# Altium integrated library Analog Devices Data Converters Digital-to-Analog Converters.IntLib: 2231 symbols (part 57 of 181)
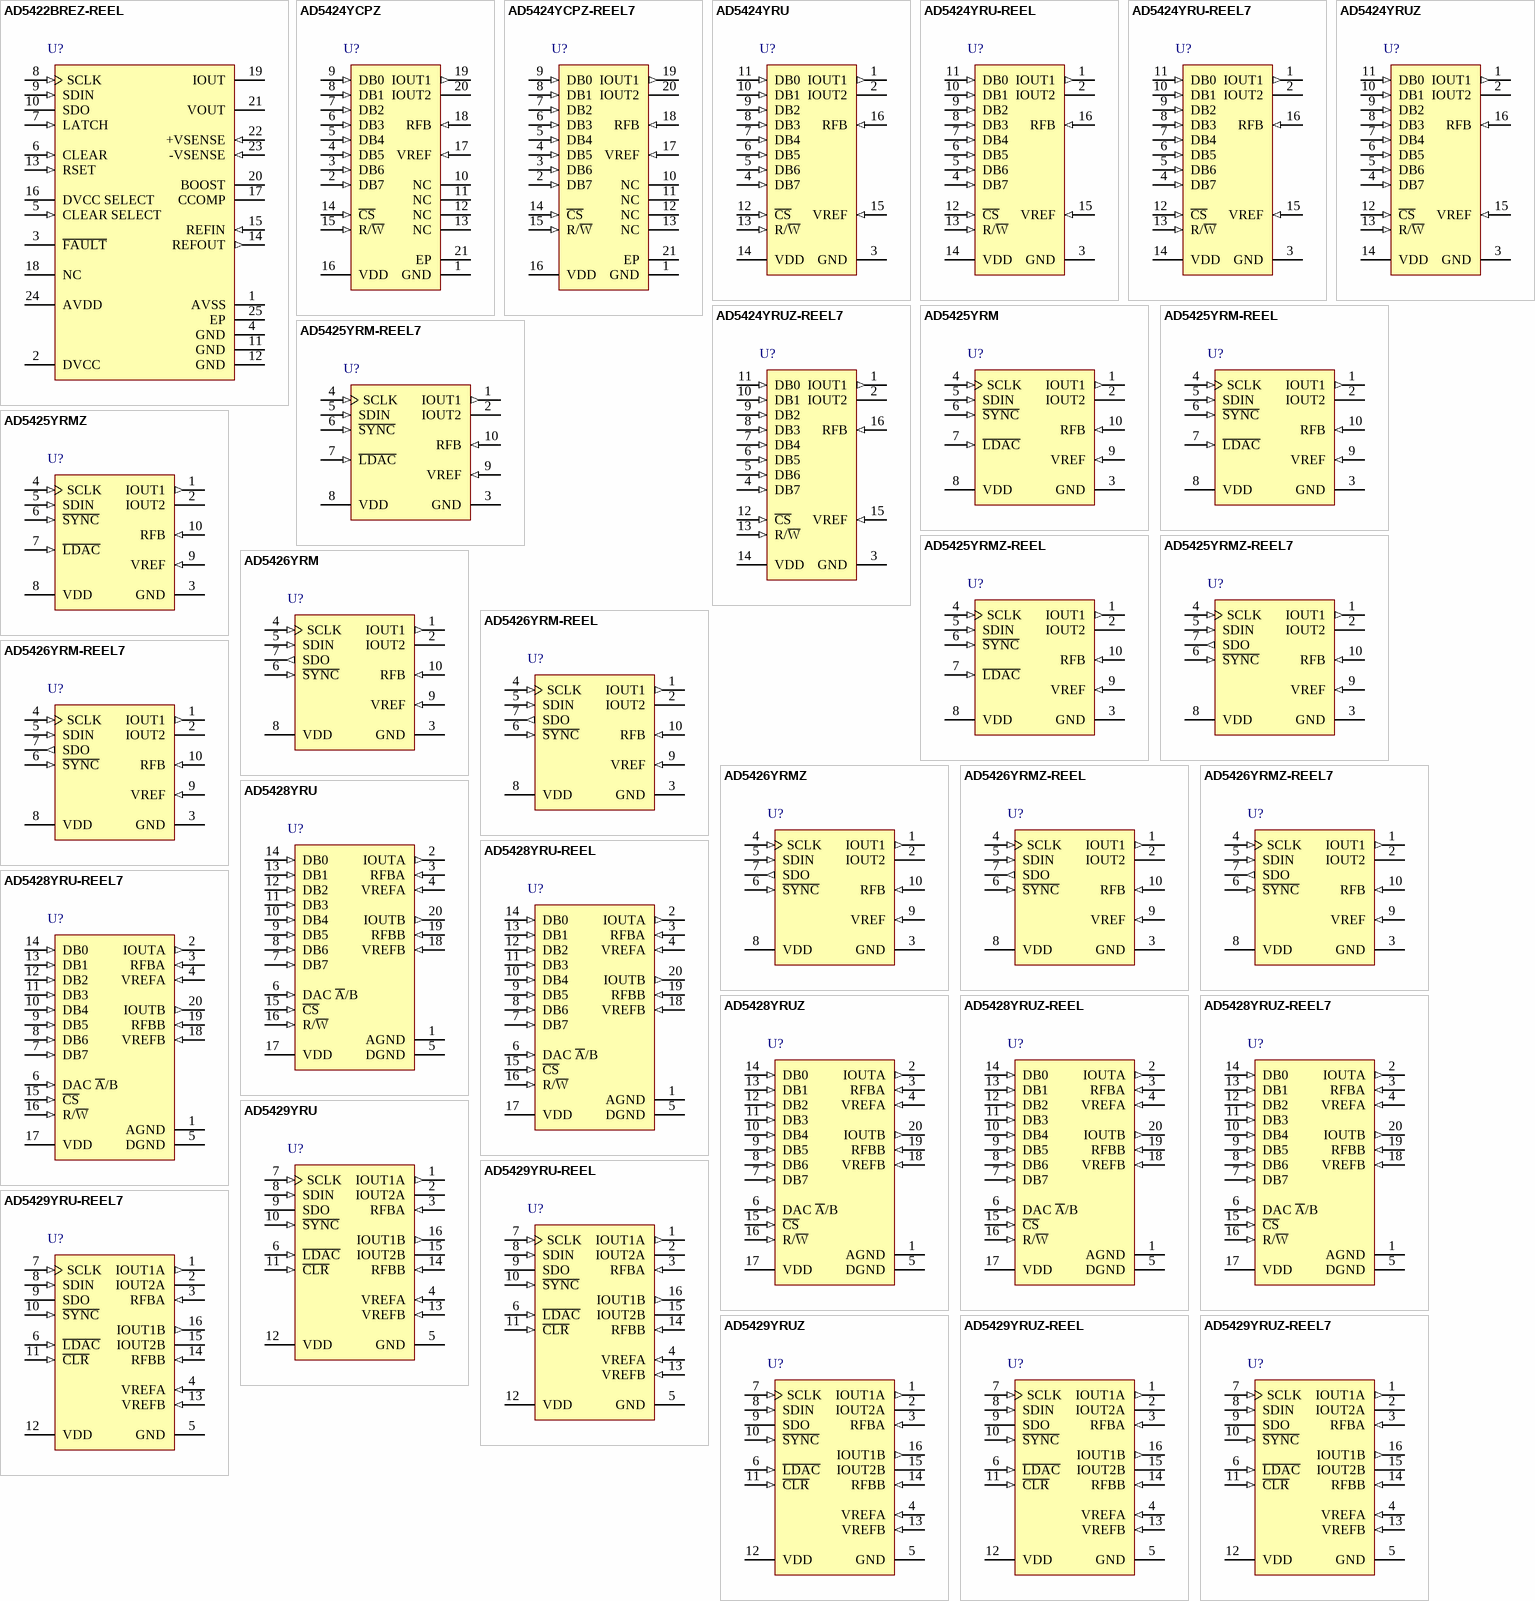
[diagram p170: symbols AD5422BREZ-REEL to AD5429YRUZ-REEL7]

## AD5422BREZ-REEL
designator U?
Single 16-Bit Current Source Digital-to-Analog Converter with Serial Interface and HART Connectivity, -40 to +85 degC, RE-24, Pb-Free, Reel; Generic Part Number: AD5422; Manufacturer: Analog Devices; PartNumber: AD5422BREZ-REEL; # DAC Outputs: 1; Max V+: 40V; Op Pwr Diss: 158mW; Resolution (Bits): 16; Settling Time: 18µs; Single Supply: No; DatasheetVersion: Rev.E; PackageVersion: 050806-A; PackageReference: RE-24; PackageDescription: 24-Lead Thin Shrink Small Outline Package, Exposed Pad [TSSOP_EP]; Supplier 1: Digi-Key; Supplier Part Number 1: AD5422BREZ-REEL-ND; Supplier 2: Mouser; Supplier Part Number 2: 584-AD5422BREZ-R; Packing: Reel; RoHS: Y; Mounting Technology: Surface Mount; Code_JEDEC: MO-153-ADT; ComponentLink1Description: Manufacturer URL; ComponentLink1URL: http://www.analog.com/en/index.html; ComponentLink2Description: Datasheet; ComponentLink2URL: http://www.analog.com/static/imported-files/data_sheets/AD5412_5422.pdf; ComponentLink3Description: Package Specification; ComponentLink3URL: http://www.analog.com/static/imported-files/packages/PKG_PDF/TSSOP_EP(RE)/RE_24.pdf; ComponentLink4Description: Product URL; ComponentLink4URL: http://www.analog.com/en/digital-to-analog-converters/da-converters/ad5422/products/product.html; ComponentLink5Description: Reference Design URL; ComponentLink5URL: http://www.analog.com/en/digital-to-analog-converters/da-converters/ad5422/products/product.html#prod_cross_sell
footprint RE-24_N (TSOP, 24-Leads, Body 7.8x4.4mm, Pitch 0.65mm, Thermal pad 5.02x3.25 mm, IPC Medium Density)
footprint RE-24_L (TSOP, 24-Leads, Body 7.8x4.4mm, Pitch 0.65mm, Thermal pad 5.02x3.25 mm, IPC High Density)
footprint RE-24_M (TSOP, 24-Leads, Body 7.8x4.4mm, Pitch 0.65mm, Thermal pad 5.02x3.25 mm, IPC Low Density)
pins: 1 AVSS (power) "Negative Analog Supply Pin. Voltage ranges from -3 V to -24 V. This pin can be connected to 0 V if the output voltage range is unipolar.", 2 DVCC (power) "Digital Supply Pin. Voltage ranges from 2.7 V to 5.5 V.This pin can also be configured as a 4.5 V LDO output by leaving the DVCC SELECT pin floating.", 3 ~{FAULT} (oc) "Fault Alert. This pin is asserted low when an open circuit is detected in current mode or an overtemperature is detected. Open drain output must be connected to a pull-up resistor.", 4 GND (power) "This pin must be connected to 0 V.", 5 CLEAR SELECT (in) "Selects the voltage output clear value, either zero-scale or midscale code (see Table 21).", 6 CLEAR (in) "Active High Input. Asserting this pin sets the current output to the bottom of the selected range or sets the voltage output to the user selected value (zero-scale or midscale).", 7 LATCH (in) "Positive Edge Sensitive Latch. A rising LATCH edge parallel loads the input shift register data into the DAC register, also updating the output.", 8 SCLK (in) "Serial Clock Input. Data is clocked into the shift register on the rising edge of SCLK. This operates at clock speeds of up to 30 MHz.", 9 SDIN (in) "Serial Data Input. Data must be valid on the rising edge of SCLK.", 10 SDO (hiz) "Serial Data Output. Used to clock data from the serial register in daisy-chain or readback mode. Data is valid on the rising edge of SCLK (see Figure 3 and Figure 4).", 11 GND (power) "Ground Reference Pin.", 12 GND (power) "This pin must be connected to 0 V.", 13 RSET (in) "An external, precision, low drift 15 kohm current setting resistor can be connected to this pin to improve the IOUT temperature drift performance. See the AD5422 Features section.", 14 REFOUT (out) "Internal Reference Voltage Output. REFOUT = 5 V +/- 2 mV.", 15 REFIN (in) "External Reference Voltage Input. Reference input range is 4 V to 5 V. REFIN = 5 V for a specified performance.", 16 DVCC SELECT "When connected to GND, this pin disables the internal supply, and an external supply must be connected to the DVCC pin. Leave this pin unconnected to enable the internal supply. See the AD5422 Features section.", 17 CCOMP "Optional compensation capacitor connection for the voltage output buffer. Connecting a 4 nF capacitor between this pin and the VOUT pin allows the voltage output to drive up to 1 µF. It should be noted that the addition of (See Datasheet)", 18 NC "No Connection. Do not connect to these pins.", 19 IOUT (hiz) "Current Output Pin.", 20 BOOST "Optional External Transistor Connection. Connecting an external transistor reduces the power dissipated in the AD5422. See the AD5422 Features section.", 21 VOUT (hiz) "Buffered Analog Output Voltage. The output amplifier is capable of directly driving a 1 k ohm, 2000 pF load.", 22 +VSENSE (in) "Sense connection for the positive voltage output load connection.", 23 -VSENSE (in) "Sense connection for the negative voltage output load connection.", 24 AVDD (power) "Positive Analog Supply Pin. Voltage ranges from 10.8 V to 60 V.", 25 EP "Negative Analog Supply Pin. Voltage ranges from -3 V to -24 V. This paddle can be connected to 0 V if the output voltage range is unipolar. The paddle can be left electrically unconnected provided that a supply connection is (See Datasheet)"

## AD5424YCPZ
designator U?
Single 8-Bit High Bandwidth Multiplying Digital-to-Analog Converter, -40 to +125 degC, CP-20-1, Pb-Free, Tray; Generic Part Number: AD5424; Manufacturer: Analog Devices; PartNumber: AD5424YCPZ; # DAC Outputs: 1; Max V+: 5.5V; Op Pwr Diss: 25µW; Resolution (Bits): 8; Settling Time: 30ns; Single Supply: Yes; DatasheetVersion: Rev.C; PackageVersion: 012508-B; PackageReference: CP-20-1; PackageDescription: 20-Lead Lead Frame Chip Scale Package [LFCSP_VQ] 4 x 4 mm Body, Very Thin Quad; Supplier 1: Digi-Key; Supplier Part Number 1: AD5424YCPZ-ND; Supplier 2: Mouser; Supplier Part Number 2: 584-AD5424YCPZ; Packing: Tray; RoHS: Y; Mounting Technology: Surface Mount; Code_JEDEC: MO-220-VGGD-1; ComponentLink1Description: Manufacturer URL; ComponentLink1URL: http://www.analog.com/en/index.html; ComponentLink2Description: Datasheet; ComponentLink2URL: http://www.analog.com/static/imported-files/data_sheets/AD5424_5433_5445.pdf; ComponentLink3Description: Package Specification; ComponentLink3URL: http://www.analog.com/static/imported-files/packages/PKG_PDF/LFCSP(CP)/CP_20_1.pdf; ComponentLink4Description: Product URL; ComponentLink4URL: http://www.analog.com/en/digital-to-analog-converters/da-converters/ad5424/products/product.html
footprint CP-20-1_N (QFN, 20-Leads, Body 4x4mm, Pitch 0.5mm, Thermal Pad 2.2x2.2mm, IPC Medium Density)
footprint CP-20-1_L (QFN, 20-Leads, Body 4x4mm, Pitch 0.5mm, Thermal Pad 2.2x2.2mm, IPC High Density)
footprint CP-20-1_M (QFN, 20-Leads, Body 4x4mm, Pitch 0.5mm, Thermal Pad 2.2x2.2mm, IPC Low Density)
pins: 1 GND (power) "Ground.", 2 DB7 (in) "Parallel Data Bit 7.", 3 DB6 (in) "Parallel Data Bit 6.", 4 DB5 (in) "Parallel Data Bit 5.", 5 DB4 (in) "Parallel Data Bit 4.", 6 DB3 (in) "Parallel Data Bit 3.", 7 DB2 (in) "Parallel Data Bit 2.", 8 DB1 (in) "Parallel Data Bit 1.", 9 DB0 (in) "Parallel Data Bit 0.", 10 NC "No Internal Connection.", 11 NC "No Internal Connection.", 12 NC "No Internal Connection.", 13 NC "No Internal Connection.", 14 ~{CS} (in) "Chip Select Input. Active low. Used in conjunction with R/W\ to load parallel data to the input latch or to read data from the DAC register. Rising edge of C\S\ loads data.", 15 R/~{W} (in) "Read/Write. When low, use in conjunction with C\S\ to load parallel data. When high, use with C\S\ to read back contents of DAC register.", 16 VDD (power) "Positive Power Supply Input. These parts can be operated from a supply of 2.5 V to 5.5 V.", 17 VREF (in) "DAC Reference Voltage Input Terminal.", 18 RFB (in) "DAC Feedback Resistor Pin. Establish voltage output for the DAC by connecting to external amplifier output.", 19 IOUT1 (out) "DAC Current Output.", 20 IOUT2 "DAC Analog Ground. This pin should normally be tied to the analog ground of the system.", 21 EP (power) "The exposed pad should be connected to ground."

## AD5424YCPZ-REEL7
designator U?
Single 8-Bit High Bandwidth Multiplying Digital-to-Analog Converter, -40 to +125 degC, CP-20-1, Pb-Free, Reel; Generic Part Number: AD5424; Manufacturer: Analog Devices; PartNumber: AD5424YCPZ-REEL7; # DAC Outputs: 1; Max V+: 5.5V; Op Pwr Diss: 25µW; Resolution (Bits): 8; Settling Time: 30ns; Single Supply: Yes; DatasheetVersion: Rev.C; PackageVersion: 012508-B; PackageReference: CP-20-1; PackageDescription: 20-Lead Lead Frame Chip Scale Package [LFCSP_VQ] 4 x 4 mm Body, Very Thin Quad; Supplier 1: Digi-Key; Supplier Part Number 1: AD5424YCPZ-REEL7-ND; Supplier 2: Mouser; Supplier Part Number 2: 584-AD5424YCPZ-R7; Packing: Reel; RoHS: Y; Mounting Technology: Surface Mount; Code_JEDEC: MO-220-VGGD-1; ComponentLink1Description: Manufacturer URL; ComponentLink1URL: http://www.analog.com/en/index.html; ComponentLink2Description: Datasheet; ComponentLink2URL: http://www.analog.com/static/imported-files/data_sheets/AD5424_5433_5445.pdf; ComponentLink3Description: Package Specification; ComponentLink3URL: http://www.analog.com/static/imported-files/packages/PKG_PDF/LFCSP(CP)/CP_20_1.pdf; ComponentLink4Description: Product URL; ComponentLink4URL: http://www.analog.com/en/digital-to-analog-converters/da-converters/ad5424/products/product.html
footprint CP-20-1_N (QFN, 20-Leads, Body 4x4mm, Pitch 0.5mm, Thermal Pad 2.2x2.2mm, IPC Medium Density)
footprint CP-20-1_L (QFN, 20-Leads, Body 4x4mm, Pitch 0.5mm, Thermal Pad 2.2x2.2mm, IPC High Density)
footprint CP-20-1_M (QFN, 20-Leads, Body 4x4mm, Pitch 0.5mm, Thermal Pad 2.2x2.2mm, IPC Low Density)
pins: 1 GND (power) "Ground.", 2 DB7 (in) "Parallel Data Bit 7.", 3 DB6 (in) "Parallel Data Bit 6.", 4 DB5 (in) "Parallel Data Bit 5.", 5 DB4 (in) "Parallel Data Bit 4.", 6 DB3 (in) "Parallel Data Bit 3.", 7 DB2 (in) "Parallel Data Bit 2.", 8 DB1 (in) "Parallel Data Bit 1.", 9 DB0 (in) "Parallel Data Bit 0.", 10 NC "No Internal Connection.", 11 NC "No Internal Connection.", 12 NC "No Internal Connection.", 13 NC "No Internal Connection.", 14 ~{CS} (in) "Chip Select Input. Active low. Used in conjunction with R/W\ to load parallel data to the input latch or to read data from the DAC register. Rising edge of C\S\ loads data.", 15 R/~{W} (in) "Read/Write. When low, use in conjunction with C\S\ to load parallel data. When high, use with C\S\ to read back contents of DAC register.", 16 VDD (power) "Positive Power Supply Input. These parts can be operated from a supply of 2.5 V to 5.5 V.", 17 VREF (in) "DAC Reference Voltage Input Terminal.", 18 RFB (in) "DAC Feedback Resistor Pin. Establish voltage output for the DAC by connecting to external amplifier output.", 19 IOUT1 (out) "DAC Current Output.", 20 IOUT2 "DAC Analog Ground. This pin should normally be tied to the analog ground of the system.", 21 EP (power) "The exposed pad should be connected to ground."

## AD5424YRU
designator U?
Single 8-Bit High Bandwidth Multiplying Digital-to-Analog Converter, -40 to +125 degC, RU-16, Tube; Generic Part Number: AD5424; Manufacturer: Analog Devices; PartNumber: AD5424YRU; # DAC Outputs: 1; Max V+: 5.5V; Op Pwr Diss: 25µW; Resolution (Bits): 8; Settling Time: 30ns; Single Supply: Yes; DatasheetVersion: Rev.C; PackageVersion: Nov-2002; PackageReference: RU-16; PackageDescription: 16-Lead Thin Shrink Small Outline Package [TSSOP]; Supplier 1: Digi-Key; Supplier Part Number 1: AD5424YRU-ND; Supplier 2: Mouser; Supplier Part Number 2: 584-AD5424YRU; Packing: Tube; RoHS: N; Mounting Technology: Surface Mount; Code_JEDEC: MO-153-AB; ComponentLink1Description: Manufacturer URL; ComponentLink1URL: http://www.analog.com/en/index.html; ComponentLink2Description: Datasheet; ComponentLink2URL: http://www.analog.com/static/imported-files/data_sheets/AD5424_5433_5445.pdf; ComponentLink3Description: Package Specification; ComponentLink3URL: http://www.analog.com/static/imported-files/packages/36244347913743854010197452789RU16.pdf; ComponentLink4Description: Product URL; ComponentLink4URL: http://www.analog.com/en/digital-to-analog-converters/da-converters/ad5424/products/product.html
footprint RU-16_N (TSOP, 16-Leads, Body 5x4.4mm, Pitch 0.65mm, IPC Medium Density)
footprint RU-16_L (TSOP, 16-Leads, Body 5x4.4mm, Pitch 0.65mm, IPC High Density)
footprint RU-16_M (TSOP, 16-Leads, Body 5x4.4mm, Pitch 0.65mm, IPC Low Density)
pins: 1 IOUT1 (out) "DAC Current Output.", 2 IOUT2 "DAC Analog Ground. This pin should normally be tied to the analog ground of the system.", 3 GND (power) "Ground.", 4 DB7 (in) "Parallel Data Bits 7.", 5 DB6 (in) "Parallel Data Bits 6.", 6 DB5 (in) "Parallel Data Bits 5.", 7 DB4 (in) "Parallel Data Bits 4.", 8 DB3 (in) "Parallel Data Bits 3.", 9 DB2 (in) "Parallel Data Bits 2.", 10 DB1 (in) "Parallel Data Bits 1.", 11 DB0 (in) "Parallel Data Bits 0.", 12 ~{CS} (in) "Chip Select Input. Active low. Used in conjunction with R/W\ to load parallel data to the input latch or to read data from the DAC register. Rising edge of C\S\ loads data.", 13 R/~{W} (in) "Read/Write. When low, use in conjunction with C\S\ to load parallel data. When high, use with C\S\ to read back contents of DAC register.", 14 VDD (power) "Positive Power Supply Input. These parts can be operated from a supply of 2.5 V to 5.5 V.", 15 VREF (in) "DAC Reference Voltage Input Terminal.", 16 RFB (in) "DAC Feedback Resistor Pin. Establish voltage output for the DAC by connecting to external amplifier output."

## AD5424YRU-REEL
designator U?
Single 8-Bit High Bandwidth Multiplying Digital-to-Analog Converter, -40 to +125 degC, RU-16, Reel; Generic Part Number: AD5424; Manufacturer: Analog Devices; PartNumber: AD5424YRU-REEL; # DAC Outputs: 1; Max V+: 5.5V; Op Pwr Diss: 25µW; Resolution (Bits): 8; Settling Time: 30ns; Single Supply: Yes; DatasheetVersion: Rev.C; PackageVersion: Nov-2002; PackageReference: RU-16; PackageDescription: 16-Lead Thin Shrink Small Outline Package [TSSOP]; Supplier 1: Mouser; Supplier Part Number 1: N/A; Packing: Reel; RoHS: N; Mounting Technology: Surface Mount; Code_JEDEC: MO-153-AB; ComponentLink1Description: Manufacturer URL; ComponentLink1URL: http://www.analog.com/en/index.html; ComponentLink2Description: Datasheet; ComponentLink2URL: http://www.analog.com/static/imported-files/data_sheets/AD5424_5433_5445.pdf; ComponentLink3Description: Package Specification; ComponentLink3URL: http://www.analog.com/static/imported-files/packages/36244347913743854010197452789RU16.pdf; ComponentLink4Description: Product URL; ComponentLink4URL: http://www.analog.com/en/digital-to-analog-converters/da-converters/ad5424/products/product.html
footprint RU-16_N (TSOP, 16-Leads, Body 5x4.4mm, Pitch 0.65mm, IPC Medium Density)
footprint RU-16_L (TSOP, 16-Leads, Body 5x4.4mm, Pitch 0.65mm, IPC High Density)
footprint RU-16_M (TSOP, 16-Leads, Body 5x4.4mm, Pitch 0.65mm, IPC Low Density)
pins: 1 IOUT1 (out) "DAC Current Output.", 2 IOUT2 "DAC Analog Ground. This pin should normally be tied to the analog ground of the system.", 3 GND (power) "Ground.", 4 DB7 (in) "Parallel Data Bits 7.", 5 DB6 (in) "Parallel Data Bits 6.", 6 DB5 (in) "Parallel Data Bits 5.", 7 DB4 (in) "Parallel Data Bits 4.", 8 DB3 (in) "Parallel Data Bits 3.", 9 DB2 (in) "Parallel Data Bits 2.", 10 DB1 (in) "Parallel Data Bits 1.", 11 DB0 (in) "Parallel Data Bits 0.", 12 ~{CS} (in) "Chip Select Input. Active low. Used in conjunction with R/W\ to load parallel data to the input latch or to read data from the DAC register. Rising edge of C\S\ loads data.", 13 R/~{W} (in) "Read/Write. When low, use in conjunction with C\S\ to load parallel data. When high, use with C\S\ to read back contents of DAC register.", 14 VDD (power) "Positive Power Supply Input. These parts can be operated from a supply of 2.5 V to 5.5 V.", 15 VREF (in) "DAC Reference Voltage Input Terminal.", 16 RFB (in) "DAC Feedback Resistor Pin. Establish voltage output for the DAC by connecting to external amplifier output."

## AD5424YRU-REEL7
designator U?
Single 8-Bit High Bandwidth Multiplying Digital-to-Analog Converter, -40 to +125 degC, RU-16, Reel; Generic Part Number: AD5424; Manufacturer: Analog Devices; PartNumber: AD5424YRU-REEL7; # DAC Outputs: 1; Max V+: 5.5V; Op Pwr Diss: 25µW; Resolution (Bits): 8; Settling Time: 30ns; Single Supply: Yes; DatasheetVersion: Rev.C; PackageVersion: Nov-2002; PackageReference: RU-16; PackageDescription: 16-Lead Thin Shrink Small Outline Package [TSSOP]; Supplier 1: Digi-Key; Supplier Part Number 1: AD5424YRU-REEL7-ND; Supplier 2: Newark; Supplier Part Number 2: 87H9938; Supplier 3: Mouser; Supplier Part Number 3: 584-AD5424YRU-R7; Packing: Reel; RoHS: N; Mounting Technology: Surface Mount; Code_JEDEC: MO-153-AB; ComponentLink1Description: Manufacturer URL; ComponentLink1URL: http://www.analog.com/en/index.html; ComponentLink2Description: Datasheet; ComponentLink2URL: http://www.analog.com/static/imported-files/data_sheets/AD5424_5433_5445.pdf; ComponentLink3Description: Package Specification; ComponentLink3URL: http://www.analog.com/static/imported-files/packages/36244347913743854010197452789RU16.pdf; ComponentLink4Description: Product URL; ComponentLink4URL: http://www.analog.com/en/digital-to-analog-converters/da-converters/ad5424/products/product.html
footprint RU-16_N (TSOP, 16-Leads, Body 5x4.4mm, Pitch 0.65mm, IPC Medium Density)
footprint RU-16_L (TSOP, 16-Leads, Body 5x4.4mm, Pitch 0.65mm, IPC High Density)
footprint RU-16_M (TSOP, 16-Leads, Body 5x4.4mm, Pitch 0.65mm, IPC Low Density)
pins: 1 IOUT1 (out) "DAC Current Output.", 2 IOUT2 "DAC Analog Ground. This pin should normally be tied to the analog ground of the system.", 3 GND (power) "Ground.", 4 DB7 (in) "Parallel Data Bits 7.", 5 DB6 (in) "Parallel Data Bits 6.", 6 DB5 (in) "Parallel Data Bits 5.", 7 DB4 (in) "Parallel Data Bits 4.", 8 DB3 (in) "Parallel Data Bits 3.", 9 DB2 (in) "Parallel Data Bits 2.", 10 DB1 (in) "Parallel Data Bits 1.", 11 DB0 (in) "Parallel Data Bits 0.", 12 ~{CS} (in) "Chip Select Input. Active low. Used in conjunction with R/W\ to load parallel data to the input latch or to read data from the DAC register. Rising edge of C\S\ loads data.", 13 R/~{W} (in) "Read/Write. When low, use in conjunction with C\S\ to load parallel data. When high, use with C\S\ to read back contents of DAC register.", 14 VDD (power) "Positive Power Supply Input. These parts can be operated from a supply of 2.5 V to 5.5 V.", 15 VREF (in) "DAC Reference Voltage Input Terminal.", 16 RFB (in) "DAC Feedback Resistor Pin. Establish voltage output for the DAC by connecting to external amplifier output."

## AD5424YRUZ
designator U?
Single 8-Bit High Bandwidth Multiplying Digital-to-Analog Converter, -40 to +125 degC, RU-16, Pb-Free, Tube; Generic Part Number: AD5424; Manufacturer: Analog Devices; PartNumber: AD5424YRUZ; # DAC Outputs: 1; Max V+: 5.5V; Op Pwr Diss: 25µW; Resolution (Bits): 8; Settling Time: 30ns; Single Supply: Yes; DatasheetVersion: Rev.C; PackageVersion: Nov-2002; PackageReference: RU-16; PackageDescription: 16-Lead Thin Shrink Small Outline Package [TSSOP]; Supplier 1: Digi-Key; Supplier Part Number 1: AD5424YRUZ-ND; Supplier 2: Farnell; Supplier Part Number 2: 1581918; Supplier 3: Newark; Supplier Part Number 3: 59K4108; Supplier 4: Mouser; Supplier Part Number 4: 584-AD5424YRUZ; Packing: Tube; RoHS: Y; Mounting Technology: Surface Mount; Code_JEDEC: MO-153-AB; ComponentLink1Description: Manufacturer URL; ComponentLink1URL: http://www.analog.com/en/index.html; ComponentLink2Description: Datasheet; ComponentLink2URL: http://www.analog.com/static/imported-files/data_sheets/AD5424_5433_5445.pdf; ComponentLink3Description: Package Specification; ComponentLink3URL: http://www.analog.com/static/imported-files/packages/36244347913743854010197452789RU16.pdf; ComponentLink4Description: Product URL; ComponentLink4URL: http://www.analog.com/en/digital-to-analog-converters/da-converters/ad5424/products/product.html
footprint RU-16_N (TSOP, 16-Leads, Body 5x4.4mm, Pitch 0.65mm, IPC Medium Density)
footprint RU-16_L (TSOP, 16-Leads, Body 5x4.4mm, Pitch 0.65mm, IPC High Density)
footprint RU-16_M (TSOP, 16-Leads, Body 5x4.4mm, Pitch 0.65mm, IPC Low Density)
pins: 1 IOUT1 (out) "DAC Current Output.", 2 IOUT2 "DAC Analog Ground. This pin should normally be tied to the analog ground of the system.", 3 GND (power) "Ground.", 4 DB7 (in) "Parallel Data Bits 7.", 5 DB6 (in) "Parallel Data Bits 6.", 6 DB5 (in) "Parallel Data Bits 5.", 7 DB4 (in) "Parallel Data Bits 4.", 8 DB3 (in) "Parallel Data Bits 3.", 9 DB2 (in) "Parallel Data Bits 2.", 10 DB1 (in) "Parallel Data Bits 1.", 11 DB0 (in) "Parallel Data Bits 0.", 12 ~{CS} (in) "Chip Select Input. Active low. Used in conjunction with R/W\ to load parallel data to the input latch or to read data from the DAC register. Rising edge of C\S\ loads data.", 13 R/~{W} (in) "Read/Write. When low, use in conjunction with C\S\ to load parallel data. When high, use with C\S\ to read back contents of DAC register.", 14 VDD (power) "Positive Power Supply Input. These parts can be operated from a supply of 2.5 V to 5.5 V.", 15 VREF (in) "DAC Reference Voltage Input Terminal.", 16 RFB (in) "DAC Feedback Resistor Pin. Establish voltage output for the DAC by connecting to external amplifier output."

## AD5424YRUZ-REEL7
designator U?
Single 8-Bit High Bandwidth Multiplying Digital-to-Analog Converter, -40 to +125 degC, RU-16, Pb-Free, Reel; Generic Part Number: AD5424; Manufacturer: Analog Devices; PartNumber: AD5424YRUZ-REEL7; # DAC Outputs: 1; Max V+: 5.5V; Op Pwr Diss: 25µW; Resolution (Bits): 8; Settling Time: 30ns; Single Supply: Yes; DatasheetVersion: Rev.C; PackageVersion: Nov-2002; PackageReference: RU-16; PackageDescription: 16-Lead Thin Shrink Small Outline Package [TSSOP]; Supplier 1: Digi-Key; Supplier Part Number 1: AD5424YRUZ-REEL7TR-ND; Supplier 2: Digi-Key; Supplier Part Number 2: AD5424YRUZ-REEL7CT-ND; Supplier 3: Digi-Key; Supplier Part Number 3: AD5424YRUZ-REEL7DKR-ND; Supplier 4: Newark; Supplier Part Number 4: 59K4110; Supplier 5: Mouser; Supplier Part Number 5: 584-AD5424YRUZ-R7; Packing: Reel; RoHS: Y; Mounting Technology: Surface Mount; Code_JEDEC: MO-153-AB; ComponentLink1Description: Manufacturer URL; ComponentLink1URL: http://www.analog.com/en/index.html; ComponentLink2Description: Datasheet; ComponentLink2URL: http://www.analog.com/static/imported-files/data_sheets/AD5424_5433_5445.pdf; ComponentLink3Description: Package Specification; ComponentLink3URL: http://www.analog.com/static/imported-files/packages/36244347913743854010197452789RU16.pdf; ComponentLink4Description: Product URL; ComponentLink4URL: http://www.analog.com/en/digital-to-analog-converters/da-converters/ad5424/products/product.html
footprint RU-16_N (TSOP, 16-Leads, Body 5x4.4mm, Pitch 0.65mm, IPC Medium Density)
footprint RU-16_L (TSOP, 16-Leads, Body 5x4.4mm, Pitch 0.65mm, IPC High Density)
footprint RU-16_M (TSOP, 16-Leads, Body 5x4.4mm, Pitch 0.65mm, IPC Low Density)
pins: 1 IOUT1 (out) "DAC Current Output.", 2 IOUT2 "DAC Analog Ground. This pin should normally be tied to the analog ground of the system.", 3 GND (power) "Ground.", 4 DB7 (in) "Parallel Data Bits 7.", 5 DB6 (in) "Parallel Data Bits 6.", 6 DB5 (in) "Parallel Data Bits 5.", 7 DB4 (in) "Parallel Data Bits 4.", 8 DB3 (in) "Parallel Data Bits 3.", 9 DB2 (in) "Parallel Data Bits 2.", 10 DB1 (in) "Parallel Data Bits 1.", 11 DB0 (in) "Parallel Data Bits 0.", 12 ~{CS} (in) "Chip Select Input. Active low. Used in conjunction with R/W\ to load parallel data to the input latch or to read data from the DAC register. Rising edge of C\S\ loads data.", 13 R/~{W} (in) "Read/Write. When low, use in conjunction with C\S\ to load parallel data. When high, use with C\S\ to read back contents of DAC register.", 14 VDD (power) "Positive Power Supply Input. These parts can be operated from a supply of 2.5 V to 5.5 V.", 15 VREF (in) "DAC Reference Voltage Input Terminal.", 16 RFB (in) "DAC Feedback Resistor Pin. Establish voltage output for the DAC by connecting to external amplifier output."

## AD5425YRM
designator U?
Single 8-Bit High Bandwidth Multiplying Digital-to-Analog Converter, -40 to +125 degC, RM-10, Tube; Generic Part Number: AD5425; Manufacturer: Analog Devices; PartNumber: AD5425YRM; # DAC Outputs: 1; Max V+: 5.5V; Op Pwr Diss: 25µW; Resolution (Bits): 8; Settling Time: 100ns; Single Supply: Yes; DatasheetVersion: Rev. B; PackageVersion: May-2005; PackageReference: RM-10; PackageDescription: 10-Lead Mini Small Outline Package [MSOP]; Supplier 1: Digi-Key; Supplier Part Number 1: AD5425YRM-ND; Supplier 2: Mouser; Supplier Part Number 2: 584-AD5425YRM; Packing: Tube; RoHS: N; Mounting Technology: Surface Mount; ComponentLink1Description: Manufacturer URL; ComponentLink1URL: http://www.analog.com/en/index.html; ComponentLink2Description: Datasheet; ComponentLink2URL: http://www.analog.com/static/imported-files/data_sheets/AD5425.pdf; ComponentLink3Description: Package Specification; ComponentLink3URL: http://www.analog.com/static/imported-files/packages/PKG_PDF/MSOP%28RM%29/RM_10.pdf; ComponentLink4Description: Product URL; ComponentLink4URL: http://www.analog.com/en/digital-to-analog-converters/da-converters/ad5425/products/product.html
footprint RM-10_N (TSSOP, 10-Leads, Body 3x3mm, Pitch 0.5mm, IPC Medium Density)
footprint RM-10_L (TSSOP, 10-Leads, Body 3x3mm, Pitch 0.5mm, IPC High Density)
footprint RM-10_M (TSSOP, 10-Leads, Body 3x3mm, Pitch 0.5mm, IPC Low Density)
pins: 1 IOUT1 (out) "DAC Current Output.", 2 IOUT2 "DAC Analog Ground. This pin should normally be tied to the analog ground of the system.", 3 GND (power) "Digital Ground Pin.", 4 SCLK (in) "Serial Clock Input. Data is clocked into the input shift register on each falling edge of the serial clock input. This device can accommodate clock rates of up to 50 MHz.", 5 SDIN (in) "Serial Data Input. Data is clocked into the 8-bit input register on each falling edge of the serial clock input.", 6 ~{SYNC} (in) "Active Low Control Input. This is the frame synchronization signal for the input data. When S\Y\N\C\ goes low, it powers on the SCLK and DIN buffers and the input shift register is enabled. Data is transferred on each (See Datasheet)", 7 ~{LDAC} (in) "Load DAC Input. Updates the DAC output. The DAC is updated when this signal goes low or alternatively; if this line is held permanently low, an automatic update mode is selected whereby the DAC is updated after 8 SCLK (See Datasheet)", 8 VDD (power) "Positive Power Supply Input. This part can be operated from a supply of 2.5 V to 5.5 V.", 9 VREF (in) "DAC Reference Voltage Input Terminal.", 10 RFB (in) "DAC Feedback Resistor Pin. Establishes voltage output for the DAC by connecting to external amplifier output."

## AD5425YRM-REEL
designator U?
Single 8-Bit High Bandwidth Multiplying Digital-to-Analog Converter, -40 to +125 degC, RM-10, Reel; Generic Part Number: AD5425; Manufacturer: Analog Devices; PartNumber: AD5425YRM-REEL; # DAC Outputs: 1; Max V+: 5.5V; Op Pwr Diss: 25µW; Resolution (Bits): 8; Settling Time: 100ns; Single Supply: Yes; DatasheetVersion: Rev. B; PackageVersion: May-2005; PackageReference: RM-10; PackageDescription: 10-Lead Mini Small Outline Package [MSOP]; Supplier 1: Digi-Key; Supplier Part Number 1: AD5425YRM-REEL-ND; Supplier 2: Mouser; Supplier Part Number 2: 584-AD5425YRM-R; Packing: Reel; RoHS: N; Mounting Technology: Surface Mount; ComponentLink1Description: Manufacturer URL; ComponentLink1URL: http://www.analog.com/en/index.html; ComponentLink2Description: Datasheet; ComponentLink2URL: http://www.analog.com/static/imported-files/data_sheets/AD5425.pdf; ComponentLink3Description: Package Specification; ComponentLink3URL: http://www.analog.com/static/imported-files/packages/PKG_PDF/MSOP%28RM%29/RM_10.pdf; ComponentLink4Description: Product URL; ComponentLink4URL: http://www.analog.com/en/digital-to-analog-converters/da-converters/ad5425/products/product.html
footprint RM-10_N (TSSOP, 10-Leads, Body 3x3mm, Pitch 0.5mm, IPC Medium Density)
footprint RM-10_L (TSSOP, 10-Leads, Body 3x3mm, Pitch 0.5mm, IPC High Density)
footprint RM-10_M (TSSOP, 10-Leads, Body 3x3mm, Pitch 0.5mm, IPC Low Density)
pins: 1 IOUT1 (out) "DAC Current Output.", 2 IOUT2 "DAC Analog Ground. This pin should normally be tied to the analog ground of the system.", 3 GND (power) "Digital Ground Pin.", 4 SCLK (in) "Serial Clock Input. Data is clocked into the input shift register on each falling edge of the serial clock input. This device can accommodate clock rates of up to 50 MHz.", 5 SDIN (in) "Serial Data Input. Data is clocked into the 8-bit input register on each falling edge of the serial clock input.", 6 ~{SYNC} (in) "Active Low Control Input. This is the frame synchronization signal for the input data. When S\Y\N\C\ goes low, it powers on the SCLK and DIN buffers and the input shift register is enabled. Data is transferred on each (See Datasheet)", 7 ~{LDAC} (in) "Load DAC Input. Updates the DAC output. The DAC is updated when this signal goes low or alternatively; if this line is held permanently low, an automatic update mode is selected whereby the DAC is updated after 8 SCLK (See Datasheet)", 8 VDD (power) "Positive Power Supply Input. This part can be operated from a supply of 2.5 V to 5.5 V.", 9 VREF (in) "DAC Reference Voltage Input Terminal.", 10 RFB (in) "DAC Feedback Resistor Pin. Establishes voltage output for the DAC by connecting to external amplifier output."

## AD5425YRM-REEL7
designator U?
Single 8-Bit High Bandwidth Multiplying Digital-to-Analog Converter, -40 to +125 degC, RM-10, Reel; Generic Part Number: AD5425; Manufacturer: Analog Devices; PartNumber: AD5425YRM-REEL7; # DAC Outputs: 1; Max V+: 5.5V; Op Pwr Diss: 25µW; Resolution (Bits): 8; Settling Time: 100ns; Single Supply: Yes; DatasheetVersion: Rev. B; PackageVersion: May-2005; PackageReference: RM-10; PackageDescription: 10-Lead Mini Small Outline Package [MSOP]; Supplier 1: Digi-Key; Supplier Part Number 1: AD5425YRM-REEL7-ND; Supplier 2: Newark; Supplier Part Number 2: 59K4113; Supplier 3: Mouser; Supplier Part Number 3: 584-AD5425YRM-R7; Packing: Reel; RoHS: N; Mounting Technology: Surface Mount; ComponentLink1Description: Manufacturer URL; ComponentLink1URL: http://www.analog.com/en/index.html; ComponentLink2Description: Datasheet; ComponentLink2URL: http://www.analog.com/static/imported-files/data_sheets/AD5425.pdf; ComponentLink3Description: Package Specification; ComponentLink3URL: http://www.analog.com/static/imported-files/packages/PKG_PDF/MSOP%28RM%29/RM_10.pdf; ComponentLink4Description: Product URL; ComponentLink4URL: http://www.analog.com/en/digital-to-analog-converters/da-converters/ad5425/products/product.html
footprint RM-10_N (TSSOP, 10-Leads, Body 3x3mm, Pitch 0.5mm, IPC Medium Density)
footprint RM-10_L (TSSOP, 10-Leads, Body 3x3mm, Pitch 0.5mm, IPC High Density)
footprint RM-10_M (TSSOP, 10-Leads, Body 3x3mm, Pitch 0.5mm, IPC Low Density)
pins: 1 IOUT1 (out) "DAC Current Output.", 2 IOUT2 "DAC Analog Ground. This pin should normally be tied to the analog ground of the system.", 3 GND (power) "Digital Ground Pin.", 4 SCLK (in) "Serial Clock Input. Data is clocked into the input shift register on each falling edge of the serial clock input. This device can accommodate clock rates of up to 50 MHz.", 5 SDIN (in) "Serial Data Input. Data is clocked into the 8-bit input register on each falling edge of the serial clock input.", 6 ~{SYNC} (in) "Active Low Control Input. This is the frame synchronization signal for the input data. When S\Y\N\C\ goes low, it powers on the SCLK and DIN buffers and the input shift register is enabled. Data is transferred on each (See Datasheet)", 7 ~{LDAC} (in) "Load DAC Input. Updates the DAC output. The DAC is updated when this signal goes low or alternatively; if this line is held permanently low, an automatic update mode is selected whereby the DAC is updated after 8 SCLK (See Datasheet)", 8 VDD (power) "Positive Power Supply Input. This part can be operated from a supply of 2.5 V to 5.5 V.", 9 VREF (in) "DAC Reference Voltage Input Terminal.", 10 RFB (in) "DAC Feedback Resistor Pin. Establishes voltage output for the DAC by connecting to external amplifier output."

## AD5425YRMZ
designator U?
Single 8-Bit High Bandwidth Multiplying Digital-to-Analog Converter, -40 to +125 degC, RM-10, Pb-Free, Tube; Generic Part Number: AD5425; Manufacturer: Analog Devices; PartNumber: AD5425YRMZ; # DAC Outputs: 1; Max V+: 5.5V; Op Pwr Diss: 25µW; Resolution (Bits): 8; Settling Time: 100ns; Single Supply: Yes; DatasheetVersion: Rev. B; PackageVersion: May-2005; PackageReference: RM-10; PackageDescription: 10-Lead Mini Small Outline Package [MSOP]; Supplier 1: Digi-Key; Supplier Part Number 1: AD5425YRMZ-ND; Supplier 2: Newark; Supplier Part Number 2: 59K4114; Supplier 3: Mouser; Supplier Part Number 3: 584-AD5425YRMZ; Packing: Tube; RoHS: Y; Mounting Technology: Surface Mount; ComponentLink1Description: Manufacturer URL; ComponentLink1URL: http://www.analog.com/en/index.html; ComponentLink2Description: Datasheet; ComponentLink2URL: http://www.analog.com/static/imported-files/data_sheets/AD5425.pdf; ComponentLink3Description: Package Specification; ComponentLink3URL: http://www.analog.com/static/imported-files/packages/PKG_PDF/MSOP%28RM%29/RM_10.pdf; ComponentLink4Description: Product URL; ComponentLink4URL: http://www.analog.com/en/digital-to-analog-converters/da-converters/ad5425/products/product.html
footprint RM-10_N (TSSOP, 10-Leads, Body 3x3mm, Pitch 0.5mm, IPC Medium Density)
footprint RM-10_L (TSSOP, 10-Leads, Body 3x3mm, Pitch 0.5mm, IPC High Density)
footprint RM-10_M (TSSOP, 10-Leads, Body 3x3mm, Pitch 0.5mm, IPC Low Density)
pins: 1 IOUT1 (out) "DAC Current Output.", 2 IOUT2 "DAC Analog Ground. This pin should normally be tied to the analog ground of the system.", 3 GND (power) "Digital Ground Pin.", 4 SCLK (in) "Serial Clock Input. Data is clocked into the input shift register on each falling edge of the serial clock input. This device can accommodate clock rates of up to 50 MHz.", 5 SDIN (in) "Serial Data Input. Data is clocked into the 8-bit input register on each falling edge of the serial clock input.", 6 ~{SYNC} (in) "Active Low Control Input. This is the frame synchronization signal for the input data. When S\Y\N\C\ goes low, it powers on the SCLK and DIN buffers and the input shift register is enabled. Data is transferred on each (See Datasheet)", 7 ~{LDAC} (in) "Load DAC Input. Updates the DAC output. The DAC is updated when this signal goes low or alternatively; if this line is held permanently low, an automatic update mode is selected whereby the DAC is updated after 8 SCLK (See Datasheet)", 8 VDD (power) "Positive Power Supply Input. This part can be operated from a supply of 2.5 V to 5.5 V.", 9 VREF (in) "DAC Reference Voltage Input Terminal.", 10 RFB (in) "DAC Feedback Resistor Pin. Establishes voltage output for the DAC by connecting to external amplifier output."

## AD5425YRMZ-REEL
designator U?
Single 8-Bit High Bandwidth Multiplying Digital-to-Analog Converter, -40 to +125 degC, RM-10, Pb-Free, Reel; Generic Part Number: AD5425; Manufacturer: Analog Devices; PartNumber: AD5425YRMZ-REEL; # DAC Outputs: 1; Max V+: 5.5V; Op Pwr Diss: 25µW; Resolution (Bits): 8; Settling Time: 100ns; Single Supply: Yes; DatasheetVersion: Rev. B; PackageVersion: May-2005; PackageReference: RM-10; PackageDescription: 10-Lead Mini Small Outline Package [MSOP]; Supplier 1: Digi-Key; Supplier Part Number 1: AD5425YRMZ-REEL-ND; Supplier 2: Mouser; Supplier Part Number 2: 584-AD5425YRMZ-R; Packing: Reel; RoHS: Y; Mounting Technology: Surface Mount; ComponentLink1Description: Manufacturer URL; ComponentLink1URL: http://www.analog.com/en/index.html; ComponentLink2Description: Datasheet; ComponentLink2URL: http://www.analog.com/static/imported-files/data_sheets/AD5425.pdf; ComponentLink3Description: Package Specification; ComponentLink3URL: http://www.analog.com/static/imported-files/packages/PKG_PDF/MSOP%28RM%29/RM_10.pdf; ComponentLink4Description: Product URL; ComponentLink4URL: http://www.analog.com/en/digital-to-analog-converters/da-converters/ad5425/products/product.html
footprint RM-10_N (TSSOP, 10-Leads, Body 3x3mm, Pitch 0.5mm, IPC Medium Density)
footprint RM-10_L (TSSOP, 10-Leads, Body 3x3mm, Pitch 0.5mm, IPC High Density)
footprint RM-10_M (TSSOP, 10-Leads, Body 3x3mm, Pitch 0.5mm, IPC Low Density)
pins: 1 IOUT1 (out) "DAC Current Output.", 2 IOUT2 "DAC Analog Ground. This pin should normally be tied to the analog ground of the system.", 3 GND (power) "Digital Ground Pin.", 4 SCLK (in) "Serial Clock Input. Data is clocked into the input shift register on each falling edge of the serial clock input. This device can accommodate clock rates of up to 50 MHz.", 5 SDIN (in) "Serial Data Input. Data is clocked into the 8-bit input register on each falling edge of the serial clock input.", 6 ~{SYNC} (in) "Active Low Control Input. This is the frame synchronization signal for the input data. When S\Y\N\C\ goes low, it powers on the SCLK and DIN buffers and the input shift register is enabled. Data is transferred on each (See Datasheet)", 7 ~{LDAC} (in) "Load DAC Input. Updates the DAC output. The DAC is updated when this signal goes low or alternatively; if this line is held permanently low, an automatic update mode is selected whereby the DAC is updated after 8 SCLK (See Datasheet)", 8 VDD (power) "Positive Power Supply Input. This part can be operated from a supply of 2.5 V to 5.5 V.", 9 VREF (in) "DAC Reference Voltage Input Terminal.", 10 RFB (in) "DAC Feedback Resistor Pin. Establishes voltage output for the DAC by connecting to external amplifier output."

## AD5425YRMZ-REEL7
designator U?
Single 8-Bit High Bandwidth Multiplying Digital-to-Analog Converter, -40 to +125 degC, RM-10, Pb-Free, Reel; Generic Part Number: AD5425; Manufacturer: Analog Devices; PartNumber: AD5425YRMZ-REEL7; # DAC Outputs: 1; Max V+: 5.5V; Op Pwr Diss: 25µW; Resolution (Bits): 8; Settling Time: 100ns; Single Supply: Yes; DatasheetVersion: Rev. B; PackageVersion: May-2005; PackageReference: RM-10; PackageDescription: 10-Lead Mini Small Outline Package [MSOP]; Supplier 1: Digi-Key; Supplier Part Number 1: AD5425YRMZ-REEL7-ND; Supplier 2: Mouser; Supplier Part Number 2: 584-AD5425YRMZ-R7; Packing: Reel; RoHS: Y; Mounting Technology: Surface Mount; ComponentLink1Description: Manufacturer URL; ComponentLink1URL: http://www.analog.com/en/index.html; ComponentLink2Description: Datasheet; ComponentLink2URL: http://www.analog.com/static/imported-files/data_sheets/AD5425.pdf; ComponentLink3Description: Package Specification; ComponentLink3URL: http://www.analog.com/static/imported-files/packages/PKG_PDF/MSOP%28RM%29/RM_10.pdf; ComponentLink4Description: Product URL; ComponentLink4URL: http://www.analog.com/en/digital-to-analog-converters/da-converters/ad5425/products/product.html
footprint RM-10_N (TSSOP, 10-Leads, Body 3x3mm, Pitch 0.5mm, IPC Medium Density)
footprint RM-10_L (TSSOP, 10-Leads, Body 3x3mm, Pitch 0.5mm, IPC High Density)
footprint RM-10_M (TSSOP, 10-Leads, Body 3x3mm, Pitch 0.5mm, IPC Low Density)
pins: 1 IOUT1 (out) "DAC Current Output.", 2 IOUT2 "DAC Analog Ground. This pin should normally be tied to the analog ground of the system.", 3 GND (power) "Digital Ground Pin.", 4 SCLK (in) "Serial Clock Input. By default, data is clocked into the input shift register on the falling edge of the serial clock input. Alternatively, by means of the serial control bits, the device may be configured such that data is (See Datasheet)", 5 SDIN (in) "Serial Data Input. Data is clocked into the 16-bit input register on the active edge of the serial clock input. By default, on power-up, data is clocked into the shift register on the falling edge of SCLK. The control bits (See Datasheet)", 6 ~{SYNC} (in) "Active Low Control Input. This is the frame synchronization signal for the input data. When S\Y\N\C\ goes low, it powers on the SCLK and DIN buffers, and the input shift register is enabled. Data is loaded to the mode, the (See Datasheet)", 7 SDO (out) "Serial Data Output. This allows a number of parts to be daisy-chained. By default, data is clocked into the shift register on the falling edge and out via SDO on the rising edge of SCLK. Data is always clocked out on the (See Datasheet)", 8 VDD (power) "Positive Power Supply Input. These parts can be operated from a supply of 2.5 V to 5.5 V.", 9 VREF (in) "DAC Reference Voltage Input.", 10 RFB (in) "DAC Feedback Resistor Pin. Establishes voltage output for the DAC by connecting to external amplifier output."

## AD5426YRM
designator U?
Single 8-Bit High Bandwidth Multiplying Digital-to-Analog Converter, -40 to +125 degC, RM-10, Tube; Generic Part Number: AD5426; Manufacturer: Analog Devices; PartNumber: AD5426YRM; # DAC Outputs: 1; Max V+: 5.5V; Op Pwr Diss: 25µW; Resolution (Bits): 8; Settling Time: 50ns; Single Supply: Yes; DatasheetVersion: Rev.D; PackageVersion: May-2005; PackageReference: RM-10; PackageDescription: 10-Lead Mini Small Outline Package [MSOP]; Supplier 1: Digi-Key; Supplier Part Number 1: AD5426YRM-ND; Supplier 2: Mouser; Supplier Part Number 2: 584-AD5426YRM; Packing: Tube; RoHS: N; Mounting Technology: Surface Mount; ComponentLink1Description: Manufacturer URL; ComponentLink1URL: http://www.analog.com/en/index.html; ComponentLink2Description: Datasheet; ComponentLink2URL: http://www.analog.com/static/imported-files/data_sheets/AD5426_5432_5443.pdf; ComponentLink3Description: Package Specification; ComponentLink3URL: http://www.analog.com/static/imported-files/packages/PKG_PDF/MSOP%28RM%29/RM_10.pdf; ComponentLink4Description: Product URL; ComponentLink4URL: http://www.analog.com/en/digital-to-analog-converters/da-converters/ad5426/products/product.html; ComponentLink5Description: Reference Design URL; ComponentLink5URL: http://www.analog.com/en/digital-to-analog-converters/da-converters/ad5426/products/product.html#prod_cross_sell
footprint RM-10_N (TSSOP, 10-Leads, Body 3x3mm, Pitch 0.5mm, IPC Medium Density)
footprint RM-10_L (TSSOP, 10-Leads, Body 3x3mm, Pitch 0.5mm, IPC High Density)
footprint RM-10_M (TSSOP, 10-Leads, Body 3x3mm, Pitch 0.5mm, IPC Low Density)
pins: 1 IOUT1 (out) "DAC Current Output.", 2 IOUT2 "DAC Analog Ground. This pin should normally be tied to the analog ground of the system.", 3 GND (power) "Digital Ground Pin.", 4 SCLK (in) "Serial Clock Input. By default, data is clocked into the input shift register on the falling edge of the serial clock input. Alternatively, by means of the serial control bits, the device may be configured such that data is (See Datasheet)", 5 SDIN (in) "Serial Data Input. Data is clocked into the 16-bit input register on the active edge of the serial clock input. By default, on power-up, data is clocked into the shift register on the falling edge of SCLK. The control bits (See Datasheet)", 6 ~{SYNC} (in) "Active Low Control Input. This is the frame synchronization signal for the input data. When S\Y\N\C\ goes low, it powers on the SCLK and DIN buffers, and the input shift register is enabled. Data is loaded to the mode, the (See Datasheet)", 7 SDO (out) "Serial Data Output. This allows a number of parts to be daisy-chained. By default, data is clocked into the shift register on the falling edge and out via SDO on the rising edge of SCLK. Data is always clocked out on the (See Datasheet)", 8 VDD (power) "Positive Power Supply Input. These parts can be operated from a supply of 2.5 V to 5.5 V.", 9 VREF (in) "DAC Reference Voltage Input.", 10 RFB (in) "DAC Feedback Resistor Pin. Establishes voltage output for the DAC by connecting to external amplifier output."

## AD5426YRM-REEL
designator U?
Single 8-Bit High Bandwidth Multiplying Digital-to-Analog Converter, -40 to +125 degC, RM-10, Reel; Generic Part Number: AD5426; Manufacturer: Analog Devices; PartNumber: AD5426YRM-REEL; # DAC Outputs: 1; Max V+: 5.5V; Op Pwr Diss: 25µW; Resolution (Bits): 8; Settling Time: 50ns; Single Supply: Yes; DatasheetVersion: Rev.D; PackageVersion: May-2005; PackageReference: RM-10; PackageDescription: 10-Lead Mini Small Outline Package [MSOP]; Supplier 1: Digi-Key; Supplier Part Number 1: AD5426YRM-REEL-ND; Supplier 2: Mouser; Supplier Part Number 2: 584-AD5426YRM-R; Packing: Reel; RoHS: N; Mounting Technology: Surface Mount; ComponentLink1Description: Manufacturer URL; ComponentLink1URL: http://www.analog.com/en/index.html; ComponentLink2Description: Datasheet; ComponentLink2URL: http://www.analog.com/static/imported-files/data_sheets/AD5426_5432_5443.pdf; ComponentLink3Description: Package Specification; ComponentLink3URL: http://www.analog.com/static/imported-files/packages/PKG_PDF/MSOP%28RM%29/RM_10.pdf; ComponentLink4Description: Product URL; ComponentLink4URL: http://www.analog.com/en/digital-to-analog-converters/da-converters/ad5426/products/product.html; ComponentLink5Description: Reference Design URL; ComponentLink5URL: http://www.analog.com/en/digital-to-analog-converters/da-converters/ad5426/products/product.html#prod_cross_sell
footprint RM-10_N (TSSOP, 10-Leads, Body 3x3mm, Pitch 0.5mm, IPC Medium Density)
footprint RM-10_L (TSSOP, 10-Leads, Body 3x3mm, Pitch 0.5mm, IPC High Density)
footprint RM-10_M (TSSOP, 10-Leads, Body 3x3mm, Pitch 0.5mm, IPC Low Density)
pins: 1 IOUT1 (out) "DAC Current Output.", 2 IOUT2 "DAC Analog Ground. This pin should normally be tied to the analog ground of the system.", 3 GND (power) "Digital Ground Pin.", 4 SCLK (in) "Serial Clock Input. By default, data is clocked into the input shift register on the falling edge of the serial clock input. Alternatively, by means of the serial control bits, the device may be configured such that data is (See Datasheet)", 5 SDIN (in) "Serial Data Input. Data is clocked into the 16-bit input register on the active edge of the serial clock input. By default, on power-up, data is clocked into the shift register on the falling edge of SCLK. The control bits (See Datasheet)", 6 ~{SYNC} (in) "Active Low Control Input. This is the frame synchronization signal for the input data. When S\Y\N\C\ goes low, it powers on the SCLK and DIN buffers, and the input shift register is enabled. Data is loaded to the mode, the (See Datasheet)", 7 SDO (out) "Serial Data Output. This allows a number of parts to be daisy-chained. By default, data is clocked into the shift register on the falling edge and out via SDO on the rising edge of SCLK. Data is always clocked out on the (See Datasheet)", 8 VDD (power) "Positive Power Supply Input. These parts can be operated from a supply of 2.5 V to 5.5 V.", 9 VREF (in) "DAC Reference Voltage Input.", 10 RFB (in) "DAC Feedback Resistor Pin. Establishes voltage output for the DAC by connecting to external amplifier output."

## AD5426YRM-REEL7
designator U?
Single 8-Bit High Bandwidth Multiplying Digital-to-Analog Converter, -40 to +125 degC, RM-10, Reel; Generic Part Number: AD5426; Manufacturer: Analog Devices; PartNumber: AD5426YRM-REEL7; # DAC Outputs: 1; Max V+: 5.5V; Op Pwr Diss: 25µW; Resolution (Bits): 8; Settling Time: 50ns; Single Supply: Yes; DatasheetVersion: Rev.D; PackageVersion: May-2005; PackageReference: RM-10; PackageDescription: 10-Lead Mini Small Outline Package [MSOP]; Supplier 1: Mouser; Supplier Part Number 1: N/A; Packing: Reel; RoHS: N; Mounting Technology: Surface Mount; ComponentLink1Description: Manufacturer URL; ComponentLink1URL: http://www.analog.com/en/index.html; ComponentLink2Description: Datasheet; ComponentLink2URL: http://www.analog.com/static/imported-files/data_sheets/AD5426_5432_5443.pdf; ComponentLink3Description: Package Specification; ComponentLink3URL: http://www.analog.com/static/imported-files/packages/PKG_PDF/MSOP%28RM%29/RM_10.pdf; ComponentLink4Description: Product URL; ComponentLink4URL: http://www.analog.com/en/digital-to-analog-converters/da-converters/ad5426/products/product.html; ComponentLink5Description: Reference Design URL; ComponentLink5URL: http://www.analog.com/en/digital-to-analog-converters/da-converters/ad5426/products/product.html#prod_cross_sell
footprint RM-10_N (TSSOP, 10-Leads, Body 3x3mm, Pitch 0.5mm, IPC Medium Density)
footprint RM-10_L (TSSOP, 10-Leads, Body 3x3mm, Pitch 0.5mm, IPC High Density)
footprint RM-10_M (TSSOP, 10-Leads, Body 3x3mm, Pitch 0.5mm, IPC Low Density)
pins: 1 IOUT1 (out) "DAC Current Output.", 2 IOUT2 "DAC Analog Ground. This pin should normally be tied to the analog ground of the system.", 3 GND (power) "Digital Ground Pin.", 4 SCLK (in) "Serial Clock Input. By default, data is clocked into the input shift register on the falling edge of the serial clock input. Alternatively, by means of the serial control bits, the device may be configured such that data is (See Datasheet)", 5 SDIN (in) "Serial Data Input. Data is clocked into the 16-bit input register on the active edge of the serial clock input. By default, on power-up, data is clocked into the shift register on the falling edge of SCLK. The control bits (See Datasheet)", 6 ~{SYNC} (in) "Active Low Control Input. This is the frame synchronization signal for the input data. When S\Y\N\C\ goes low, it powers on the SCLK and DIN buffers, and the input shift register is enabled. Data is loaded to the mode, the (See Datasheet)", 7 SDO (out) "Serial Data Output. This allows a number of parts to be daisy-chained. By default, data is clocked into the shift register on the falling edge and out via SDO on the rising edge of SCLK. Data is always clocked out on the (See Datasheet)", 8 VDD (power) "Positive Power Supply Input. These parts can be operated from a supply of 2.5 V to 5.5 V.", 9 VREF (in) "DAC Reference Voltage Input.", 10 RFB (in) "DAC Feedback Resistor Pin. Establishes voltage output for the DAC by connecting to external amplifier output."